# Altium schematic symbol library ADUM1250ARZ.SchLib: 1 symbol
Pins are listed as number, name and electrical type; pins without a type are passive.

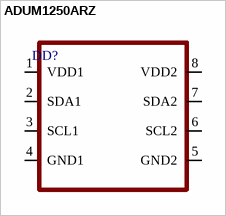
[diagram p0: symbol ADUM1250ARZ]

## ADUM1250ARZ
designator DD?
footprint SO8-150
pins: 1 VDD1, 2 SDA1, 3 SCL1, 4 GND1, 5 GND2, 6 SCL2, 7 SDA2, 8 VDD2